# Altium schematic symbol library jlcpcb_resistors_basic.schlib: 256 symbols (part 3 of 5)
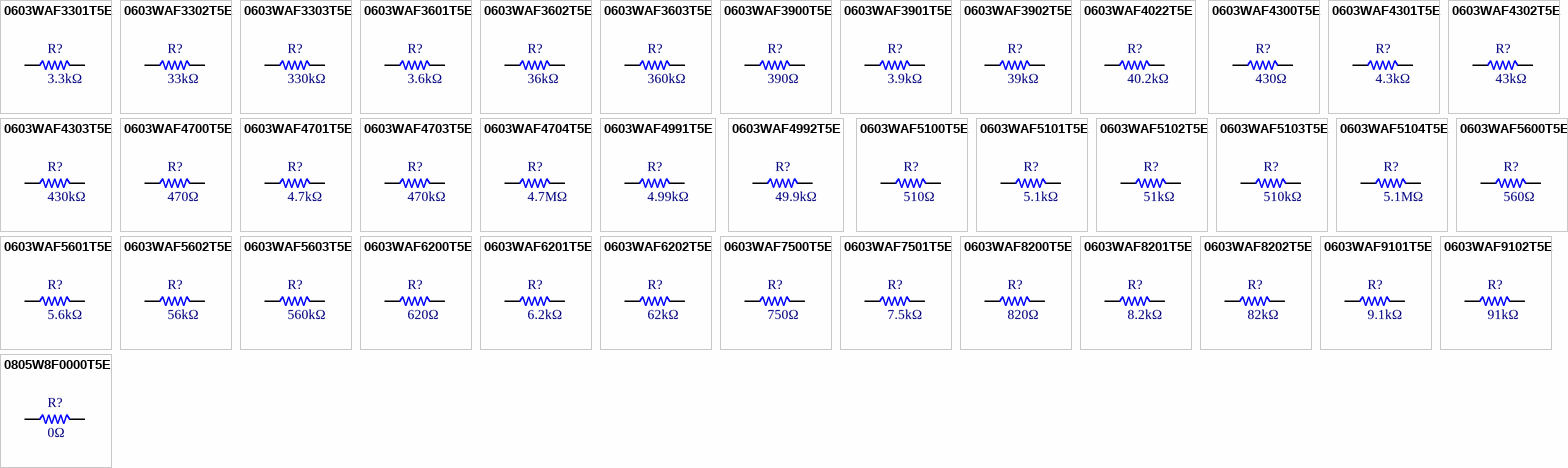
[diagram p8: symbols 0603WAF3301T5E to 0805W8F0000T5E]

## 0603WAF3303T5E
designator R?  Resistance: 330kΩ  (hidden comment: *)
Resistor, 330kΩ, ±1%, 100mW, 75V, ±100ppm/°C, -55°C to +155°C, SMD 0603; Manufacturer: Uniroyal; Manufacturer Part Number: 0603WAF3303T5E; Supplier 1: LCSC; Supplier Part Number 1: C23137; JLCPCB Part Number: C23137; Power Rating: 100mW; Category: Resistors; Package Size: 0603; JLCPCB Basic Part: Yes; Tolerance: ±1%; Voltage Rating: 75V; Temperature Coefficient: ±100ppm/°C; Temperature Rating: -55°C to +155°C; ComponentLink1Description: Datasheet; ComponentLink1URL: https://datasheet.lcsc.com/lcsc/2206010116_UNI-ROYAL-Uniroyal-Elec-0603WAF3303T5E_C23137.pdf; ComponentLink2Description: JLCPCB Part URL; ComponentLink2URL: https://jlcpcb.com/partdetail/23864-0603WAF3303T5E/C23137
footprint RES-0603 (0603 (1608M) Resistor)
pins: 1, 2

## 0603WAF3601T5E
designator R?  Resistance: 3.6kΩ  (hidden comment: *)
Resistor, 3.6kΩ, ±1%, 100mW, 75V, ±100ppm/°C, -55°C to +155°C, SMD 0603; Manufacturer: Uniroyal; Manufacturer Part Number: 0603WAF3601T5E; Supplier 1: LCSC; Supplier Part Number 1: C22980; JLCPCB Part Number: C22980; Power Rating: 100mW; Category: Resistors; Package Size: 0603; JLCPCB Basic Part: Yes; Tolerance: ±1%; Voltage Rating: 75V; Temperature Coefficient: ±100ppm/°C; Temperature Rating: -55°C to +155°C; ComponentLink1Description: Datasheet; ComponentLink1URL: https://datasheet.lcsc.com/lcsc/2206010116_UNI-ROYAL-Uniroyal-Elec-0603WAF3601T5E_C22980.pdf; ComponentLink2Description: JLCPCB Part URL; ComponentLink2URL: https://jlcpcb.com/partdetail/23707-0603WAF3601T5E/C22980
footprint RES-0603 (0603 (1608M) Resistor)
pins: 1, 2

## 0603WAF3602T5E
designator R?  Resistance: 36kΩ  (hidden comment: *)
Resistor, 36kΩ, ±1%, 100mW, 75V, ±100ppm/°C, -55°C to +155°C, SMD 0603; Manufacturer: Uniroyal; Manufacturer Part Number: 0603WAF3602T5E; Supplier 1: LCSC; Supplier Part Number 1: C23147; JLCPCB Part Number: C23147; Power Rating: 100mW; Category: Resistors; Package Size: 0603; JLCPCB Basic Part: Yes; Tolerance: ±1%; Voltage Rating: 75V; Temperature Coefficient: ±100ppm/°C; Temperature Rating: -55°C to +155°C; ComponentLink1Description: Datasheet; ComponentLink1URL: https://datasheet.lcsc.com/lcsc/2206010116_UNI-ROYAL-Uniroyal-Elec-0603WAF3602T5E_C23147.pdf; ComponentLink2Description: JLCPCB Part URL; ComponentLink2URL: https://jlcpcb.com/partdetail/23874-0603WAF3602T5E/C23147
footprint RES-0603 (0603 (1608M) Resistor)
pins: 1, 2

## 0603WAF3603T5E
designator R?  Resistance: 360kΩ  (hidden comment: *)
Resistor, 360kΩ, ±1%, 100mW, 75V, ±100ppm/°C, -55°C to +155°C, SMD 0603; Manufacturer: Uniroyal; Manufacturer Part Number: 0603WAF3603T5E; Supplier 1: LCSC; Supplier Part Number 1: C23146; JLCPCB Part Number: C23146; Power Rating: 100mW; Category: Resistors; Package Size: 0603; JLCPCB Basic Part: Yes; Tolerance: ±1%; Voltage Rating: 75V; Temperature Coefficient: ±100ppm/°C; Temperature Rating: -55°C to +155°C; ComponentLink1Description: Datasheet; ComponentLink1URL: https://datasheet.lcsc.com/lcsc/2206010116_UNI-ROYAL-Uniroyal-Elec-0603WAF3603T5E_C23146.pdf; ComponentLink2Description: JLCPCB Part URL; ComponentLink2URL: https://jlcpcb.com/partdetail/23873-0603WAF3603T5E/C23146
footprint RES-0603 (0603 (1608M) Resistor)
pins: 1, 2

## 0603WAF3900T5E
designator R?  Resistance: 390Ω  (hidden comment: *)
Resistor, 390Ω, ±1%, 100mW, 75V, ±100ppm/°C, -55°C to +155°C, SMD 0603; Manufacturer: Uniroyal; Manufacturer Part Number: 0603WAF3900T5E; Supplier 1: LCSC; Supplier Part Number 1: C23151; JLCPCB Part Number: C23151; Power Rating: 100mW; Category: Resistors; Package Size: 0603; JLCPCB Basic Part: Yes; Tolerance: ±1%; Voltage Rating: 75V; Temperature Coefficient: ±100ppm/°C; Temperature Rating: -55°C to +155°C; ComponentLink1Description: Datasheet; ComponentLink1URL: https://datasheet.lcsc.com/lcsc/2206010116_UNI-ROYAL-Uniroyal-Elec-0603WAF3900T5E_C23151.pdf; ComponentLink2Description: JLCPCB Part URL; ComponentLink2URL: https://jlcpcb.com/partdetail/23878-0603WAF3900T5E/C23151
footprint RES-0603 (0603 (1608M) Resistor)
pins: 1, 2

## 0603WAF3901T5E
designator R?  Resistance: 3.9kΩ  (hidden comment: *)
Resistor, 3.9kΩ, ±1%, 100mW, 75V, ±100ppm/°C, -55°C to +155°C, SMD 0603; Manufacturer: Uniroyal; Manufacturer Part Number: 0603WAF3901T5E; Supplier 1: LCSC; Supplier Part Number 1: C23018; JLCPCB Part Number: C23018; Power Rating: 100mW; Category: Resistors; Package Size: 0603; JLCPCB Basic Part: Yes; Tolerance: ±1%; Voltage Rating: 75V; Temperature Coefficient: ±100ppm/°C; Temperature Rating: -55°C to +155°C; ComponentLink1Description: Datasheet; ComponentLink1URL: https://datasheet.lcsc.com/lcsc/2206010116_UNI-ROYAL-Uniroyal-Elec-0603WAF3901T5E_C23018.pdf; ComponentLink2Description: JLCPCB Part URL; ComponentLink2URL: https://jlcpcb.com/partdetail/23745-0603WAF3901T5E/C23018
footprint RES-0603 (0603 (1608M) Resistor)
pins: 1, 2

## 0603WAF3902T5E
designator R?  Resistance: 39kΩ  (hidden comment: *)
Resistor, 39kΩ, ±1%, 100mW, 75V, ±100ppm/°C, -55°C to +155°C, SMD 0603; Manufacturer: Uniroyal; Manufacturer Part Number: 0603WAF3902T5E; Supplier 1: LCSC; Supplier Part Number 1: C23153; JLCPCB Part Number: C23153; Power Rating: 100mW; Category: Resistors; Package Size: 0603; JLCPCB Basic Part: Yes; Tolerance: ±1%; Voltage Rating: 75V; Temperature Coefficient: ±100ppm/°C; Temperature Rating: -55°C to +155°C; ComponentLink1Description: Datasheet; ComponentLink1URL: https://datasheet.lcsc.com/lcsc/2206010116_UNI-ROYAL-Uniroyal-Elec-0603WAF3902T5E_C23153.pdf; ComponentLink2Description: JLCPCB Part URL; ComponentLink2URL: https://jlcpcb.com/partdetail/23880-0603WAF3902T5E/C23153
footprint RES-0603 (0603 (1608M) Resistor)
pins: 1, 2

## 0603WAF4022T5E
designator R?  Resistance: 40.2kΩ  (hidden comment: *)
Resistor, 40.2kΩ, ±1%, 100mW, 75V, ±100ppm/°C, -55°C to +155°C, SMD 0603; Manufacturer: Uniroyal; Manufacturer Part Number: 0603WAF4022T5E; Supplier 1: LCSC; Supplier Part Number 1: C12447; JLCPCB Part Number: C12447; Power Rating: 100mW; Category: Resistors; Package Size: 0603; JLCPCB Basic Part: Yes; Tolerance: ±1%; Voltage Rating: 75V; Temperature Coefficient: ±100ppm/°C; Temperature Rating: -55°C to +155°C; ComponentLink1Description: Datasheet; ComponentLink1URL: https://datasheet.lcsc.com/lcsc/2206010216_UNI-ROYAL-Uniroyal-Elec-0603WAF4022T5E_C12447.pdf; ComponentLink2Description: JLCPCB Part URL; ComponentLink2URL: https://jlcpcb.com/partdetail/13081-0603WAF4022T5E/C12447
footprint RES-0603 (0603 (1608M) Resistor)
pins: 1, 2

## 0603WAF4300T5E
designator R?  Resistance: 430Ω  (hidden comment: *)
Resistor, 430Ω, ±1%, 100mW, 75V, ±100ppm/°C, -55°C to +155°C, SMD 0603; Manufacturer: Uniroyal; Manufacturer Part Number: 0603WAF4300T5E; Supplier 1: LCSC; Supplier Part Number 1: C23170; JLCPCB Part Number: C23170; Power Rating: 100mW; Category: Resistors; Package Size: 0603; JLCPCB Basic Part: Yes; Tolerance: ±1%; Voltage Rating: 75V; Temperature Coefficient: ±100ppm/°C; Temperature Rating: -55°C to +155°C; ComponentLink1Description: Datasheet; ComponentLink1URL: https://datasheet.lcsc.com/lcsc/2206010116_UNI-ROYAL-Uniroyal-Elec-0603WAF4300T5E_C23170.pdf; ComponentLink2Description: JLCPCB Part URL; ComponentLink2URL: https://jlcpcb.com/partdetail/23897-0603WAF4300T5E/C23170
footprint RES-0603 (0603 (1608M) Resistor)
pins: 1, 2

## 0603WAF4301T5E
designator R?  Resistance: 4.3kΩ  (hidden comment: *)
Resistor, 4.3kΩ, ±1%, 100mW, 75V, ±100ppm/°C, -55°C to +155°C, SMD 0603; Manufacturer: Uniroyal; Manufacturer Part Number: 0603WAF4301T5E; Supplier 1: LCSC; Supplier Part Number 1: C23159; JLCPCB Part Number: C23159; Power Rating: 100mW; Category: Resistors; Package Size: 0603; JLCPCB Basic Part: Yes; Tolerance: ±1%; Voltage Rating: 75V; Temperature Coefficient: ±100ppm/°C; Temperature Rating: -55°C to +155°C; ComponentLink1Description: Datasheet; ComponentLink1URL: https://datasheet.lcsc.com/lcsc/2206010116_UNI-ROYAL-Uniroyal-Elec-0603WAF4301T5E_C23159.pdf; ComponentLink2Description: JLCPCB Part URL; ComponentLink2URL: https://jlcpcb.com/partdetail/23886-0603WAF4301T5E/C23159
footprint RES-0603 (0603 (1608M) Resistor)
pins: 1, 2

## 0603WAF4302T5E
designator R?  Resistance: 43kΩ  (hidden comment: *)
Resistor, 43kΩ, ±1%, 100mW, 75V, ±100ppm/°C, -55°C to +155°C, SMD 0603; Manufacturer: Uniroyal; Manufacturer Part Number: 0603WAF4302T5E; Supplier 1: LCSC; Supplier Part Number 1: C23172; JLCPCB Part Number: C23172; Power Rating: 100mW; Category: Resistors; Package Size: 0603; JLCPCB Basic Part: Yes; Tolerance: ±1%; Voltage Rating: 75V; Temperature Coefficient: ±100ppm/°C; Temperature Rating: -55°C to +155°C; ComponentLink1Description: Datasheet; ComponentLink1URL: https://datasheet.lcsc.com/lcsc/2206010116_UNI-ROYAL-Uniroyal-Elec-0603WAF4302T5E_C23172.pdf; ComponentLink2Description: JLCPCB Part URL; ComponentLink2URL: https://jlcpcb.com/partdetail/23899-0603WAF4302T5E/C23172
footprint RES-0603 (0603 (1608M) Resistor)
pins: 1, 2

## 0603WAF4303T5E
designator R?  Resistance: 430kΩ  (hidden comment: *)
Resistor, 430kΩ, ±1%, 100mW, 75V, ±100ppm/°C, -55°C to +155°C, SMD 0603; Manufacturer: Uniroyal; Manufacturer Part Number: 0603WAF4303T5E; Supplier 1: LCSC; Supplier Part Number 1: C25969; JLCPCB Part Number: C25969; Power Rating: 100mW; Category: Resistors; Package Size: 0603; JLCPCB Basic Part: Yes; Tolerance: ±1%; Voltage Rating: 75V; Temperature Coefficient: ±100ppm/°C; Temperature Rating: -55°C to +155°C; ComponentLink1Description: Datasheet; ComponentLink1URL: https://datasheet.lcsc.com/lcsc/2206010045_UNI-ROYAL-Uniroyal-Elec-0603WAF4303T5E_C25969.pdf; ComponentLink2Description: JLCPCB Part URL; ComponentLink2URL: https://jlcpcb.com/partdetail/26712-0603WAF4303T5E/C25969
footprint RES-0603 (0603 (1608M) Resistor)
pins: 1, 2

## 0603WAF4700T5E
designator R?  Resistance: 470Ω  (hidden comment: *)
Resistor, 470Ω, ±1%, 100mW, 75V, ±100ppm/°C, -55°C to +155°C, SMD 0603; Manufacturer: Uniroyal; Manufacturer Part Number: 0603WAF4700T5E; Supplier 1: LCSC; Supplier Part Number 1: C23179; JLCPCB Part Number: C23179; Power Rating: 100mW; Category: Resistors; Package Size: 0603; JLCPCB Basic Part: Yes; Tolerance: ±1%; Voltage Rating: 75V; Temperature Coefficient: ±100ppm/°C; Temperature Rating: -55°C to +155°C; ComponentLink1Description: Datasheet; ComponentLink1URL: https://datasheet.lcsc.com/lcsc/2206010116_UNI-ROYAL-Uniroyal-Elec-0603WAF4700T5E_C23179.pdf; ComponentLink2Description: JLCPCB Part URL; ComponentLink2URL: https://jlcpcb.com/partdetail/23906-0603WAF4700T5E/C23179
footprint RES-0603 (0603 (1608M) Resistor)
pins: 1, 2

## 0603WAF4701T5E
designator R?  Resistance: 4.7kΩ  (hidden comment: *)
Resistor, 4.7kΩ, ±1%, 100mW, 75V, ±100ppm/°C, -55°C to +155°C, SMD 0603; Manufacturer: Uniroyal; Manufacturer Part Number: 0603WAF4701T5E; Supplier 1: LCSC; Supplier Part Number 1: C23162; JLCPCB Part Number: C23162; Power Rating: 100mW; Category: Resistors; Package Size: 0603; JLCPCB Basic Part: Yes; Tolerance: ±1%; Voltage Rating: 75V; Temperature Coefficient: ±100ppm/°C; Temperature Rating: -55°C to +155°C; ComponentLink1Description: Datasheet; ComponentLink1URL: https://datasheet.lcsc.com/lcsc/2206010116_UNI-ROYAL-Uniroyal-Elec-0603WAF4701T5E_C23162.pdf; ComponentLink2Description: JLCPCB Part URL; ComponentLink2URL: https://jlcpcb.com/partdetail/23889-0603WAF4701T5E/C23162
footprint RES-0603 (0603 (1608M) Resistor)
pins: 1, 2

## 0603WAF4703T5E
designator R?  Resistance: 470kΩ  (hidden comment: *)
Resistor, 470kΩ, ±1%, 100mW, 75V, ±100ppm/°C, -55°C to +155°C, SMD 0603; Manufacturer: Uniroyal; Manufacturer Part Number: 0603WAF4703T5E; Supplier 1: LCSC; Supplier Part Number 1: C23178; JLCPCB Part Number: C23178; Power Rating: 100mW; Category: Resistors; Package Size: 0603; JLCPCB Basic Part: Yes; Tolerance: ±1%; Voltage Rating: 75V; Temperature Coefficient: ±100ppm/°C; Temperature Rating: -55°C to +155°C; ComponentLink1Description: Datasheet; ComponentLink1URL: https://datasheet.lcsc.com/lcsc/2206010116_UNI-ROYAL-Uniroyal-Elec-0603WAF4703T5E_C23178.pdf; ComponentLink2Description: JLCPCB Part URL; ComponentLink2URL: https://jlcpcb.com/partdetail/23905-0603WAF4703T5E/C23178
footprint RES-0603 (0603 (1608M) Resistor)
pins: 1, 2

## 0603WAF4704T5E
designator R?  Resistance: 4.7MΩ  (hidden comment: *)
Resistor, 4.7MΩ, ±1%, 100mW, 75V, ±100ppm/°C, -55°C to +155°C, SMD 0603; Manufacturer: Uniroyal; Manufacturer Part Number: 0603WAF4704T5E; Supplier 1: LCSC; Supplier Part Number 1: C23163; JLCPCB Part Number: C23163; Power Rating: 100mW; Category: Resistors; Package Size: 0603; JLCPCB Basic Part: Yes; Tolerance: ±1%; Voltage Rating: 75V; Temperature Coefficient: ±100ppm/°C; Temperature Rating: -55°C to +155°C; ComponentLink1Description: Datasheet; ComponentLink1URL: https://datasheet.lcsc.com/lcsc/2206010116_UNI-ROYAL-Uniroyal-Elec-0603WAF4704T5E_C23163.pdf; ComponentLink2Description: JLCPCB Part URL; ComponentLink2URL: https://jlcpcb.com/partdetail/23890-0603WAF4704T5E/C23163
footprint RES-0603 (0603 (1608M) Resistor)
pins: 1, 2

## 0603WAF4991T5E
designator R?  Resistance: 4.99kΩ  (hidden comment: *)
Resistor, 4.99kΩ, ±1%, 100mW, 75V, ±100ppm/°C, -55°C to +155°C, SMD 0603; Manufacturer: Uniroyal; Manufacturer Part Number: 0603WAF4991T5E; Supplier 1: LCSC; Supplier Part Number 1: C23046; JLCPCB Part Number: C23046; Power Rating: 100mW; Category: Resistors; Package Size: 0603; JLCPCB Basic Part: Yes; Tolerance: ±1%; Voltage Rating: 75V; Temperature Coefficient: ±100ppm/°C; Temperature Rating: -55°C to +155°C; ComponentLink1Description: Datasheet; ComponentLink1URL: https://datasheet.lcsc.com/lcsc/2206010116_UNI-ROYAL-Uniroyal-Elec-0603WAF4991T5E_C23046.pdf; ComponentLink2Description: JLCPCB Part URL; ComponentLink2URL: https://jlcpcb.com/partdetail/23773-0603WAF4991T5E/C23046
footprint RES-0603 (0603 (1608M) Resistor)
pins: 1, 2

## 0603WAF4992T5E
designator R?  Resistance: 49.9kΩ  (hidden comment: *)
Resistor, 49.9kΩ, ±1%, 100mW, 75V, ±100ppm/°C, -55°C to +155°C, SMD 0603; Manufacturer: Uniroyal; Manufacturer Part Number: 0603WAF4992T5E; Supplier 1: LCSC; Supplier Part Number 1: C23184; JLCPCB Part Number: C23184; Power Rating: 100mW; Category: Resistors; Package Size: 0603; JLCPCB Basic Part: Yes; Tolerance: ±1%; Voltage Rating: 75V; Temperature Coefficient: ±100ppm/°C; Temperature Rating: -55°C to +155°C; ComponentLink1Description: Datasheet; ComponentLink1URL: https://datasheet.lcsc.com/lcsc/2206010116_UNI-ROYAL-Uniroyal-Elec-0603WAF4992T5E_C23184.pdf; ComponentLink2Description: JLCPCB Part URL; ComponentLink2URL: https://jlcpcb.com/partdetail/23911-0603WAF4992T5E/C23184
footprint RES-0603 (0603 (1608M) Resistor)
pins: 1, 2

## 0603WAF5100T5E
designator R?  Resistance: 510Ω  (hidden comment: *)
Resistor, 510Ω, ±1%, 100mW, 75V, ±100ppm/°C, -55°C to +155°C, SMD 0603; Manufacturer: Uniroyal; Manufacturer Part Number: 0603WAF5100T5E; Supplier 1: LCSC; Supplier Part Number 1: C23193; JLCPCB Part Number: C23193; Power Rating: 100mW; Category: Resistors; Package Size: 0603; JLCPCB Basic Part: Yes; Tolerance: ±1%; Voltage Rating: 75V; Temperature Coefficient: ±100ppm/°C; Temperature Rating: -55°C to +155°C; ComponentLink1Description: Datasheet; ComponentLink1URL: https://datasheet.lcsc.com/lcsc/2206010116_UNI-ROYAL-Uniroyal-Elec-0603WAF5100T5E_C23193.pdf; ComponentLink2Description: JLCPCB Part URL; ComponentLink2URL: https://jlcpcb.com/partdetail/23920-0603WAF5100T5E/C23193
footprint RES-0603 (0603 (1608M) Resistor)
pins: 1, 2

## 0603WAF5101T5E
designator R?  Resistance: 5.1kΩ  (hidden comment: *)
Resistor, 5.1kΩ, ±1%, 100mW, 75V, ±100ppm/°C, -55°C to +155°C, SMD 0603; Manufacturer: Uniroyal; Manufacturer Part Number: 0603WAF5101T5E; Supplier 1: LCSC; Supplier Part Number 1: C23186; JLCPCB Part Number: C23186; Power Rating: 100mW; Category: Resistors; Package Size: 0603; JLCPCB Basic Part: Yes; Tolerance: ±1%; Voltage Rating: 75V; Temperature Coefficient: ±100ppm/°C; Temperature Rating: -55°C to +155°C; ComponentLink1Description: Datasheet; ComponentLink1URL: https://datasheet.lcsc.com/lcsc/2206010116_UNI-ROYAL-Uniroyal-Elec-0603WAF5101T5E_C23186.pdf; ComponentLink2Description: JLCPCB Part URL; ComponentLink2URL: https://jlcpcb.com/partdetail/23913-0603WAF5101T5E/C23186
footprint RES-0603 (0603 (1608M) Resistor)
pins: 1, 2

## 0603WAF5102T5E
designator R?  Resistance: 51kΩ  (hidden comment: *)
Resistor, 51kΩ, ±1%, 100mW, 75V, ±100ppm/°C, -55°C to +155°C, SMD 0603; Manufacturer: Uniroyal; Manufacturer Part Number: 0603WAF5102T5E; Supplier 1: LCSC; Supplier Part Number 1: C23196; JLCPCB Part Number: C23196; Power Rating: 100mW; Category: Resistors; Package Size: 0603; JLCPCB Basic Part: Yes; Tolerance: ±1%; Voltage Rating: 75V; Temperature Coefficient: ±100ppm/°C; Temperature Rating: -55°C to +155°C; ComponentLink1Description: Datasheet; ComponentLink1URL: https://datasheet.lcsc.com/lcsc/2206010116_UNI-ROYAL-Uniroyal-Elec-0603WAF5102T5E_C23196.pdf; ComponentLink2Description: JLCPCB Part URL; ComponentLink2URL: https://jlcpcb.com/partdetail/23923-0603WAF5102T5E/C23196
footprint RES-0603 (0603 (1608M) Resistor)
pins: 1, 2

## 0603WAF5103T5E
designator R?  Resistance: 510kΩ  (hidden comment: *)
Resistor, 510kΩ, ±1%, 100mW, 75V, ±100ppm/°C, -55°C to +155°C, SMD 0603; Manufacturer: Uniroyal; Manufacturer Part Number: 0603WAF5103T5E; Supplier 1: LCSC; Supplier Part Number 1: C23192; JLCPCB Part Number: C23192; Power Rating: 100mW; Category: Resistors; Package Size: 0603; JLCPCB Basic Part: Yes; Tolerance: ±1%; Voltage Rating: 75V; Temperature Coefficient: ±100ppm/°C; Temperature Rating: -55°C to +155°C; ComponentLink1Description: Datasheet; ComponentLink1URL: https://datasheet.lcsc.com/lcsc/2206010116_UNI-ROYAL-Uniroyal-Elec-0603WAF5103T5E_C23192.pdf; ComponentLink2Description: JLCPCB Part URL; ComponentLink2URL: https://jlcpcb.com/partdetail/23919-0603WAF5103T5E/C23192
footprint RES-0603 (0603 (1608M) Resistor)
pins: 1, 2

## 0603WAF5104T5E
designator R?  Resistance: 5.1MΩ  (hidden comment: *)
Resistor, 5.1MΩ, ±1%, 100mW, 75V, ±100ppm/°C, -55°C to +155°C, SMD 0603; Manufacturer: Uniroyal; Manufacturer Part Number: 0603WAF5104T5E; Supplier 1: LCSC; Supplier Part Number 1: C13320; JLCPCB Part Number: C13320; Power Rating: 100mW; Category: Resistors; Package Size: 0603; JLCPCB Basic Part: Yes; Tolerance: ±1%; Voltage Rating: 75V; Temperature Coefficient: ±100ppm/°C; Temperature Rating: -55°C to +155°C; ComponentLink1Description: Datasheet; ComponentLink1URL: https://datasheet.lcsc.com/lcsc/2206010216_UNI-ROYAL-Uniroyal-Elec-0603WAF5104T5E_C13320.pdf; ComponentLink2Description: JLCPCB Part URL; ComponentLink2URL: https://jlcpcb.com/partdetail/13967-0603WAF5104T5E/C13320
footprint RES-0603 (0603 (1608M) Resistor)
pins: 1, 2

## 0603WAF5600T5E
designator R?  Resistance: 560Ω  (hidden comment: *)
Resistor, 560Ω, ±1%, 100mW, 75V, ±100ppm/°C, -55°C to +155°C, SMD 0603; Manufacturer: Uniroyal; Manufacturer Part Number: 0603WAF5600T5E; Supplier 1: LCSC; Supplier Part Number 1: C23204; JLCPCB Part Number: C23204; Power Rating: 100mW; Category: Resistors; Package Size: 0603; JLCPCB Basic Part: Yes; Tolerance: ±1%; Voltage Rating: 75V; Temperature Coefficient: ±100ppm/°C; Temperature Rating: -55°C to +155°C; ComponentLink1Description: Datasheet; ComponentLink1URL: https://datasheet.lcsc.com/lcsc/2206010116_UNI-ROYAL-Uniroyal-Elec-0603WAF5600T5E_C23204.pdf; ComponentLink2Description: JLCPCB Part URL; ComponentLink2URL: https://jlcpcb.com/partdetail/23931-0603WAF5600T5E/C23204
footprint RES-0603 (0603 (1608M) Resistor)
pins: 1, 2

## 0603WAF5601T5E
designator R?  Resistance: 5.6kΩ  (hidden comment: *)
Resistor, 5.6kΩ, ±1%, 100mW, 75V, ±100ppm/°C, -55°C to +155°C, SMD 0603; Manufacturer: Uniroyal; Manufacturer Part Number: 0603WAF5601T5E; Supplier 1: LCSC; Supplier Part Number 1: C23189; JLCPCB Part Number: C23189; Power Rating: 100mW; Category: Resistors; Package Size: 0603; JLCPCB Basic Part: Yes; Tolerance: ±1%; Voltage Rating: 75V; Temperature Coefficient: ±100ppm/°C; Temperature Rating: -55°C to +155°C; ComponentLink1Description: Datasheet; ComponentLink1URL: https://datasheet.lcsc.com/lcsc/2206010116_UNI-ROYAL-Uniroyal-Elec-0603WAF5601T5E_C23189.pdf; ComponentLink2Description: JLCPCB Part URL; ComponentLink2URL: https://jlcpcb.com/partdetail/23916-0603WAF5601T5E/C23189
footprint RES-0603 (0603 (1608M) Resistor)
pins: 1, 2

## 0603WAF5602T5E
designator R?  Resistance: 56kΩ  (hidden comment: *)
Resistor, 56kΩ, ±1%, 100mW, 75V, ±100ppm/°C, -55°C to +155°C, SMD 0603; Manufacturer: Uniroyal; Manufacturer Part Number: 0603WAF5602T5E; Supplier 1: LCSC; Supplier Part Number 1: C23206; JLCPCB Part Number: C23206; Power Rating: 100mW; Category: Resistors; Package Size: 0603; JLCPCB Basic Part: Yes; Tolerance: ±1%; Voltage Rating: 75V; Temperature Coefficient: ±100ppm/°C; Temperature Rating: -55°C to +155°C; ComponentLink1Description: Datasheet; ComponentLink1URL: https://datasheet.lcsc.com/lcsc/2206010116_UNI-ROYAL-Uniroyal-Elec-0603WAF5602T5E_C23206.pdf; ComponentLink2Description: JLCPCB Part URL; ComponentLink2URL: https://jlcpcb.com/partdetail/23933-0603WAF5602T5E/C23206
footprint RES-0603 (0603 (1608M) Resistor)
pins: 1, 2

## 0603WAF5603T5E
designator R?  Resistance: 560kΩ  (hidden comment: *)
Resistor, 560kΩ, ±1%, 100mW, 75V, ±100ppm/°C, -55°C to +155°C, SMD 0603; Manufacturer: Uniroyal; Manufacturer Part Number: 0603WAF5603T5E; Supplier 1: LCSC; Supplier Part Number 1: C23203; JLCPCB Part Number: C23203; Power Rating: 100mW; Category: Resistors; Package Size: 0603; JLCPCB Basic Part: Yes; Tolerance: ±1%; Voltage Rating: 75V; Temperature Coefficient: ±100ppm/°C; Temperature Rating: -55°C to +155°C; ComponentLink1Description: Datasheet; ComponentLink1URL: https://datasheet.lcsc.com/lcsc/2206010116_UNI-ROYAL-Uniroyal-Elec-0603WAF5603T5E_C23203.pdf; ComponentLink2Description: JLCPCB Part URL; ComponentLink2URL: https://jlcpcb.com/partdetail/23930-0603WAF5603T5E/C23203
footprint RES-0603 (0603 (1608M) Resistor)
pins: 1, 2

## 0603WAF6200T5E
designator R?  Resistance: 620Ω  (hidden comment: *)
Resistor, 620Ω, ±1%, 100mW, 75V, ±100ppm/°C, -55°C to +155°C, SMD 0603; Manufacturer: Uniroyal; Manufacturer Part Number: 0603WAF6200T5E; Supplier 1: LCSC; Supplier Part Number 1: C23220; JLCPCB Part Number: C23220; Power Rating: 100mW; Category: Resistors; Package Size: 0603; JLCPCB Basic Part: Yes; Tolerance: ±1%; Voltage Rating: 75V; Temperature Coefficient: ±100ppm/°C; Temperature Rating: -55°C to +155°C; ComponentLink1Description: Datasheet; ComponentLink1URL: https://datasheet.lcsc.com/lcsc/2206010116_UNI-ROYAL-Uniroyal-Elec-0603WAF6200T5E_C23220.pdf; ComponentLink2Description: JLCPCB Part URL; ComponentLink2URL: https://jlcpcb.com/partdetail/23947-0603WAF6200T5E/C23220
footprint RES-0603 (0603 (1608M) Resistor)
pins: 1, 2

## 0603WAF6201T5E
designator R?  Resistance: 6.2kΩ  (hidden comment: *)
Resistor, 6.2kΩ, ±1%, 100mW, 75V, ±100ppm/°C, -55°C to +155°C, SMD 0603; Manufacturer: Uniroyal; Manufacturer Part Number: 0603WAF6201T5E; Supplier 1: LCSC; Supplier Part Number 1: C4260; JLCPCB Part Number: C4260; Power Rating: 100mW; Category: Resistors; Package Size: 0603; JLCPCB Basic Part: Yes; Tolerance: ±1%; Voltage Rating: 75V; Temperature Coefficient: ±100ppm/°C; Temperature Rating: -55°C to +155°C; ComponentLink1Description: Datasheet; ComponentLink1URL: https://datasheet.lcsc.com/lcsc/2206010230_UNI-ROYAL-Uniroyal-Elec-0603WAF6201T5E_C4260.pdf; ComponentLink2Description: JLCPCB Part URL; ComponentLink2URL: https://jlcpcb.com/partdetail/4667-0603WAF6201T5E/C4260
footprint RES-0603 (0603 (1608M) Resistor)
pins: 1, 2

## 0603WAF6202T5E
designator R?  Resistance: 62kΩ  (hidden comment: *)
Resistor, 62kΩ, ±1%, 100mW, 75V, ±100ppm/°C, -55°C to +155°C, SMD 0603; Manufacturer: Uniroyal; Manufacturer Part Number: 0603WAF6202T5E; Supplier 1: LCSC; Supplier Part Number 1: C23221; JLCPCB Part Number: C23221; Power Rating: 100mW; Category: Resistors; Package Size: 0603; JLCPCB Basic Part: Yes; Tolerance: ±1%; Voltage Rating: 75V; Temperature Coefficient: ±100ppm/°C; Temperature Rating: -55°C to +155°C; ComponentLink1Description: Datasheet; ComponentLink1URL: https://datasheet.lcsc.com/lcsc/2206010116_UNI-ROYAL-Uniroyal-Elec-0603WAF6202T5E_C23221.pdf; ComponentLink2Description: JLCPCB Part URL; ComponentLink2URL: https://jlcpcb.com/partdetail/23948-0603WAF6202T5E/C23221
footprint RES-0603 (0603 (1608M) Resistor)
pins: 1, 2

## 0603WAF7500T5E
designator R?  Resistance: 750Ω  (hidden comment: *)
Resistor, 750Ω, ±1%, 100mW, 75V, ±100ppm/°C, -55°C to +155°C, SMD 0603; Manufacturer: Uniroyal; Manufacturer Part Number: 0603WAF7500T5E; Supplier 1: LCSC; Supplier Part Number 1: C23241; JLCPCB Part Number: C23241; Power Rating: 100mW; Category: Resistors; Package Size: 0603; JLCPCB Basic Part: Yes; Tolerance: ±1%; Voltage Rating: 75V; Temperature Coefficient: ±100ppm/°C; Temperature Rating: -55°C to +155°C; ComponentLink1Description: Datasheet; ComponentLink1URL: https://datasheet.lcsc.com/lcsc/2206010100_UNI-ROYAL-Uniroyal-Elec-0603WAF7500T5E_C23241.pdf; ComponentLink2Description: JLCPCB Part URL; ComponentLink2URL: https://jlcpcb.com/partdetail/23968-0603WAF7500T5E/C23241
footprint RES-0603 (0603 (1608M) Resistor)
pins: 1, 2

## 0603WAF7501T5E
designator R?  Resistance: 7.5kΩ  (hidden comment: *)
Resistor, 7.5kΩ, ±1%, 100mW, 75V, ±100ppm/°C, -55°C to +155°C, SMD 0603; Manufacturer: Uniroyal; Manufacturer Part Number: 0603WAF7501T5E; Supplier 1: LCSC; Supplier Part Number 1: C23234; JLCPCB Part Number: C23234; Power Rating: 100mW; Category: Resistors; Package Size: 0603; JLCPCB Basic Part: Yes; Tolerance: ±1%; Voltage Rating: 75V; Temperature Coefficient: ±100ppm/°C; Temperature Rating: -55°C to +155°C; ComponentLink1Description: Datasheet; ComponentLink1URL: https://datasheet.lcsc.com/lcsc/2206010100_UNI-ROYAL-Uniroyal-Elec-0603WAF7501T5E_C23234.pdf; ComponentLink2Description: JLCPCB Part URL; ComponentLink2URL: https://jlcpcb.com/partdetail/23961-0603WAF7501T5E/C23234
footprint RES-0603 (0603 (1608M) Resistor)
pins: 1, 2

## 0603WAF8200T5E
designator R?  Resistance: 820Ω  (hidden comment: *)
Resistor, 820Ω, ±1%, 100mW, 75V, ±100ppm/°C, -55°C to +155°C, SMD 0603; Manufacturer: Uniroyal; Manufacturer Part Number: 0603WAF8200T5E; Supplier 1: LCSC; Supplier Part Number 1: C23253; JLCPCB Part Number: C23253; Power Rating: 100mW; Category: Resistors; Package Size: 0603; JLCPCB Basic Part: Yes; Tolerance: ±1%; Voltage Rating: 75V; Temperature Coefficient: ±100ppm/°C; Temperature Rating: -55°C to +155°C; ComponentLink1Description: Datasheet; ComponentLink1URL: https://datasheet.lcsc.com/lcsc/2206010100_UNI-ROYAL-Uniroyal-Elec-0603WAF8200T5E_C23253.pdf; ComponentLink2Description: JLCPCB Part URL; ComponentLink2URL: https://jlcpcb.com/partdetail/23980-0603WAF8200T5E/C23253
footprint RES-0603 (0603 (1608M) Resistor)
pins: 1, 2

## 0603WAF8201T5E
designator R?  Resistance: 8.2kΩ  (hidden comment: *)
Resistor, 8.2kΩ, ±1%, 100mW, 75V, ±100ppm/°C, -55°C to +155°C, SMD 0603; Manufacturer: Uniroyal; Manufacturer Part Number: 0603WAF8201T5E; Supplier 1: LCSC; Supplier Part Number 1: C25981; JLCPCB Part Number: C25981; Power Rating: 100mW; Category: Resistors; Package Size: 0603; JLCPCB Basic Part: Yes; Tolerance: ±1%; Voltage Rating: 75V; Temperature Coefficient: ±100ppm/°C; Temperature Rating: -55°C to +155°C; ComponentLink1Description: Datasheet; ComponentLink1URL: https://datasheet.lcsc.com/lcsc/2206010045_UNI-ROYAL-Uniroyal-Elec-0603WAF8201T5E_C25981.pdf; ComponentLink2Description: JLCPCB Part URL; ComponentLink2URL: https://jlcpcb.com/partdetail/26724-0603WAF8201T5E/C25981
footprint RES-0603 (0603 (1608M) Resistor)
pins: 1, 2

## 0603WAF8202T5E
designator R?  Resistance: 82kΩ  (hidden comment: *)
Resistor, 82kΩ, ±1%, 100mW, 75V, ±100ppm/°C, -55°C to +155°C, SMD 0603; Manufacturer: Uniroyal; Manufacturer Part Number: 0603WAF8202T5E; Supplier 1: LCSC; Supplier Part Number 1: C23254; JLCPCB Part Number: C23254; Power Rating: 100mW; Category: Resistors; Package Size: 0603; JLCPCB Basic Part: Yes; Tolerance: ±1%; Voltage Rating: 75V; Temperature Coefficient: ±100ppm/°C; Temperature Rating: -55°C to +155°C; ComponentLink1Description: Datasheet; ComponentLink1URL: https://datasheet.lcsc.com/lcsc/2206010100_UNI-ROYAL-Uniroyal-Elec-0603WAF8202T5E_C23254.pdf; ComponentLink2Description: JLCPCB Part URL; ComponentLink2URL: https://jlcpcb.com/partdetail/23981-0603WAF8202T5E/C23254
footprint RES-0603 (0603 (1608M) Resistor)
pins: 1, 2

## 0603WAF9101T5E
designator R?  Resistance: 9.1kΩ  (hidden comment: *)
Resistor, 9.1kΩ, ±1%, 100mW, 75V, ±100ppm/°C, -55°C to +155°C, SMD 0603; Manufacturer: Uniroyal; Manufacturer Part Number: 0603WAF9101T5E; Supplier 1: LCSC; Supplier Part Number 1: C23260; JLCPCB Part Number: C23260; Power Rating: 100mW; Category: Resistors; Package Size: 0603; JLCPCB Basic Part: Yes; Tolerance: ±1%; Voltage Rating: 75V; Temperature Coefficient: ±100ppm/°C; Temperature Rating: -55°C to +155°C; ComponentLink1Description: Datasheet; ComponentLink1URL: https://datasheet.lcsc.com/lcsc/2206010100_UNI-ROYAL-Uniroyal-Elec-0603WAF9101T5E_C23260.pdf; ComponentLink2Description: JLCPCB Part URL; ComponentLink2URL: https://jlcpcb.com/partdetail/23987-0603WAF9101T5E/C23260
footprint RES-0603 (0603 (1608M) Resistor)
pins: 1, 2

## 0603WAF9102T5E
designator R?  Resistance: 91kΩ  (hidden comment: *)
Resistor, 91kΩ, ±1%, 100mW, 75V, ±100ppm/°C, -55°C to +155°C, SMD 0603; Manufacturer: Uniroyal; Manufacturer Part Number: 0603WAF9102T5E; Supplier 1: LCSC; Supplier Part Number 1: C23265; JLCPCB Part Number: C23265; Power Rating: 100mW; Category: Resistors; Package Size: 0603; JLCPCB Basic Part: Yes; Tolerance: ±1%; Voltage Rating: 75V; Temperature Coefficient: ±100ppm/°C; Temperature Rating: -55°C to +155°C; ComponentLink1Description: Datasheet; ComponentLink1URL: https://datasheet.lcsc.com/lcsc/2206010100_UNI-ROYAL-Uniroyal-Elec-0603WAF9102T5E_C23265.pdf; ComponentLink2Description: JLCPCB Part URL; ComponentLink2URL: https://jlcpcb.com/partdetail/23992-0603WAF9102T5E/C23265
footprint RES-0603 (0603 (1608M) Resistor)
pins: 1, 2

## 0805W8F0000T5E
designator R?  Resistance: 0Ω  (hidden comment: *)
Resistor, 0Ω, ±1%, 125mW, 150V, ±800ppm/°C, -55°C to +155°C, SMD 0805; Manufacturer: Uniroyal; Manufacturer Part Number: 0805W8F0000T5E; Supplier 1: LCSC; Supplier Part Number 1: C17477; JLCPCB Part Number: C17477; Power Rating: 125mW; Category: Resistors; Package Size: 0805; JLCPCB Basic Part: Yes; Tolerance: ±1%; Voltage Rating: 150V; Temperature Coefficient: ±800ppm/°C; Temperature Rating: -55°C to +155°C; ComponentLink1Description: Datasheet; ComponentLink1URL: https://datasheet.lcsc.com/lcsc/2206010216_UNI-ROYAL-Uniroyal-Elec-0805W8F0000T5E_C17477.pdf; ComponentLink2Description: JLCPCB Part URL; ComponentLink2URL: https://jlcpcb.com/partdetail/18165-0805W8F0000T5E/C17477
footprint RES-0805 (0805 (2012M) Resistor)
pins: 1, 2

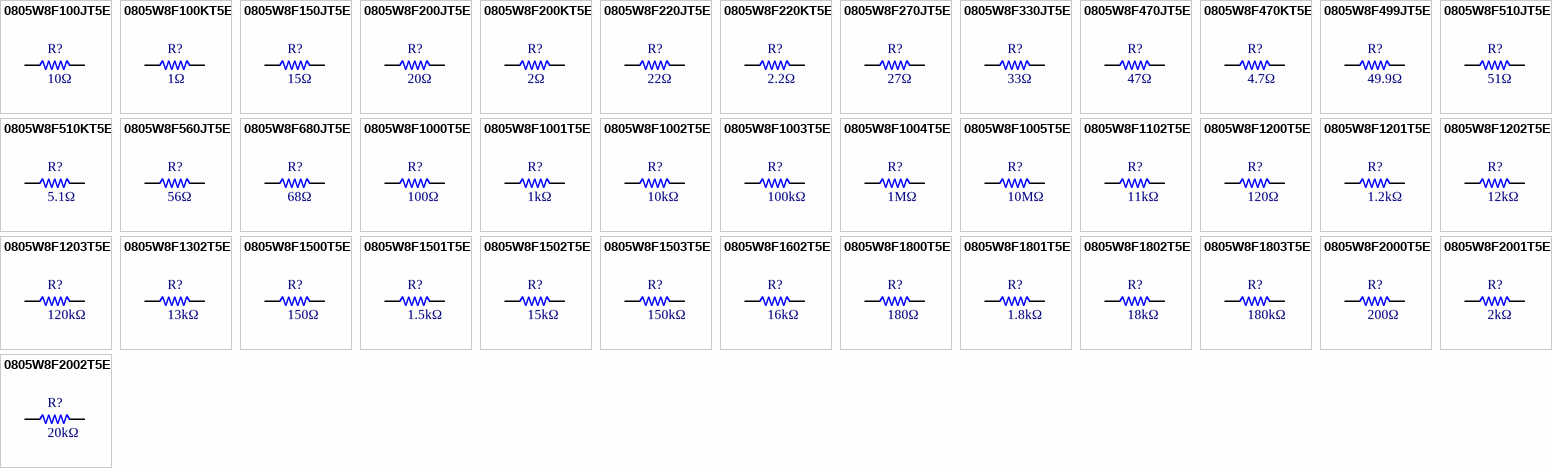
[diagram p4: symbols 0805W8F100JT5E to 0805W8F2002T5E]

## 0805W8F100JT5E
designator R?  Resistance: 10Ω  (hidden comment: *)
Resistor, 10Ω, ±1%, 125mW, 150V, ±200ppm/°C, -55°C to +155°C, SMD 0805; Manufacturer: Uniroyal; Manufacturer Part Number: 0805W8F100JT5E; Supplier 1: LCSC; Supplier Part Number 1: C17415; JLCPCB Part Number: C17415; Power Rating: 125mW; Category: Resistors; Package Size: 0805; JLCPCB Basic Part: Yes; Tolerance: ±1%; Voltage Rating: 150V; Temperature Coefficient: ±200ppm/°C; Temperature Rating: -55°C to +155°C; ComponentLink1Description: Datasheet; ComponentLink1URL: https://datasheet.lcsc.com/lcsc/2206010216_UNI-ROYAL-Uniroyal-Elec-0805W8F100JT5E_C17415.pdf; ComponentLink2Description: JLCPCB Part URL; ComponentLink2URL: https://jlcpcb.com/partdetail/18103-0805W8F100JT5E/C17415
footprint RES-0805 (0805 (2012M) Resistor)
pins: 1, 2

## 0805W8F100KT5E
designator R?  Resistance: 1Ω  (hidden comment: *)
Resistor, 1Ω, ±1%, 125mW, 150V, ±400ppm/°C, -55°C to +155°C, SMD 0805; Manufacturer: Uniroyal; Manufacturer Part Number: 0805W8F100KT5E; Supplier 1: LCSC; Supplier Part Number 1: C25271; JLCPCB Part Number: C25271; Power Rating: 125mW; Category: Resistors; Package Size: 0805; JLCPCB Basic Part: Yes; Tolerance: ±1%; Voltage Rating: 150V; Temperature Coefficient: ±400ppm/°C; Temperature Rating: -55°C to +155°C; ComponentLink1Description: Datasheet; ComponentLink1URL: https://datasheet.lcsc.com/lcsc/2205311845_UNI-ROYAL-Uniroyal-Elec-0805W8F100KT5E_C25271.pdf; ComponentLink2Description: JLCPCB Part URL; ComponentLink2URL: https://jlcpcb.com/partdetail/26014-0805W8F100KT5E/C25271
footprint RES-0805 (0805 (2012M) Resistor)
pins: 1, 2

## 0805W8F150JT5E
designator R?  Resistance: 15Ω  (hidden comment: *)
Resistor, 15Ω, ±1%, 125mW, 150V, ±100ppm/°C, -55°C to +155°C, SMD 0805; Manufacturer: Uniroyal; Manufacturer Part Number: 0805W8F150JT5E; Supplier 1: LCSC; Supplier Part Number 1: C17480; JLCPCB Part Number: C17480; Power Rating: 125mW; Category: Resistors; Package Size: 0805; JLCPCB Basic Part: Yes; Tolerance: ±1%; Voltage Rating: 150V; Temperature Coefficient: ±100ppm/°C; Temperature Rating: -55°C to +155°C; ComponentLink1Description: Datasheet; ComponentLink1URL: https://datasheet.lcsc.com/lcsc/2206010216_UNI-ROYAL-Uniroyal-Elec-0805W8F150JT5E_C17480.pdf; ComponentLink2Description: JLCPCB Part URL; ComponentLink2URL: https://jlcpcb.com/partdetail/18168-0805W8F150JT5E/C17480
footprint RES-0805 (0805 (2012M) Resistor)
pins: 1, 2

## 0805W8F200JT5E
designator R?  Resistance: 20Ω  (hidden comment: *)
Resistor, 20Ω, ±1%, 125mW, 150V, ±200ppm/°C, -55°C to +155°C, SMD 0805; Manufacturer: Uniroyal; Manufacturer Part Number: 0805W8F200JT5E; Supplier 1: LCSC; Supplier Part Number 1: C17544; JLCPCB Part Number: C17544; Power Rating: 125mW; Category: Resistors; Package Size: 0805; JLCPCB Basic Part: Yes; Tolerance: ±1%; Voltage Rating: 150V; Temperature Coefficient: ±200ppm/°C; Temperature Rating: -55°C to +155°C; ComponentLink1Description: Datasheet; ComponentLink1URL: https://datasheet.lcsc.com/lcsc/2206010200_UNI-ROYAL-Uniroyal-Elec-0805W8F200JT5E_C17544.pdf; ComponentLink2Description: JLCPCB Part URL; ComponentLink2URL: https://jlcpcb.com/partdetail/18232-0805W8F200JT5E/C17544
footprint RES-0805 (0805 (2012M) Resistor)
pins: 1, 2

## 0805W8F200KT5E
designator R?  Resistance: 2Ω  (hidden comment: *)
Resistor, 2Ω, ±1%, 125mW, 150V, ±400ppm/°C, -55°C to +155°C, SMD 0805; Manufacturer: Uniroyal; Manufacturer Part Number: 0805W8F200KT5E; Supplier 1: LCSC; Supplier Part Number 1: C17606; JLCPCB Part Number: C17606; Power Rating: 125mW; Category: Resistors; Package Size: 0805; JLCPCB Basic Part: Yes; Tolerance: ±1%; Voltage Rating: 150V; Temperature Coefficient: ±400ppm/°C; Temperature Rating: -55°C to +155°C; ComponentLink1Description: Datasheet; ComponentLink1URL: https://datasheet.lcsc.com/lcsc/2206010200_UNI-ROYAL-Uniroyal-Elec-0805W8F200KT5E_C17606.pdf; ComponentLink2Description: JLCPCB Part URL; ComponentLink2URL: https://jlcpcb.com/partdetail/18294-0805W8F200KT5E/C17606
footprint RES-0805 (0805 (2012M) Resistor)
pins: 1, 2

## 0805W8F220JT5E
designator R?  Resistance: 22Ω  (hidden comment: *)
Resistor, 22Ω, ±1%, 125mW, 150V, ±100ppm/°C, -55°C to +155°C, SMD 0805; Manufacturer: Uniroyal; Manufacturer Part Number: 0805W8F220JT5E; Supplier 1: LCSC; Supplier Part Number 1: C17561; JLCPCB Part Number: C17561; Power Rating: 125mW; Category: Resistors; Package Size: 0805; JLCPCB Basic Part: Yes; Tolerance: ±1%; Voltage Rating: 150V; Temperature Coefficient: ±100ppm/°C; Temperature Rating: -55°C to +155°C; ComponentLink1Description: Datasheet; ComponentLink1URL: https://datasheet.lcsc.com/lcsc/2206010200_UNI-ROYAL-Uniroyal-Elec-0805W8F220JT5E_C17561.pdf; ComponentLink2Description: JLCPCB Part URL; ComponentLink2URL: https://jlcpcb.com/partdetail/18249-0805W8F220JT5E/C17561
footprint RES-0805 (0805 (2012M) Resistor)
pins: 1, 2

## 0805W8F220KT5E
designator R?  Resistance: 2.2Ω  (hidden comment: *)
Resistor, 2.2Ω, ±1%, 125mW, 150V, ±400ppm/°C, -55°C to +155°C, SMD 0805; Manufacturer: Uniroyal; Manufacturer Part Number: 0805W8F220KT5E; Supplier 1: LCSC; Supplier Part Number 1: C17521; JLCPCB Part Number: C17521; Power Rating: 125mW; Category: Resistors; Package Size: 0805; JLCPCB Basic Part: Yes; Tolerance: ±1%; Voltage Rating: 150V; Temperature Coefficient: ±400ppm/°C; Temperature Rating: -55°C to +155°C; ComponentLink1Description: Datasheet; ComponentLink1URL: https://datasheet.lcsc.com/lcsc/2206010200_UNI-ROYAL-Uniroyal-Elec-0805W8F220KT5E_C17521.pdf; ComponentLink2Description: JLCPCB Part URL; ComponentLink2URL: https://jlcpcb.com/partdetail/18209-0805W8F220KT5E/C17521
footprint RES-0805 (0805 (2012M) Resistor)
pins: 1, 2

## 0805W8F270JT5E
designator R?  Resistance: 27Ω  (hidden comment: *)
Resistor, 27Ω, ±1%, 125mW, 150V, ±100ppm/°C, -55°C to +155°C, SMD 0805; Manufacturer: Uniroyal; Manufacturer Part Number: 0805W8F270JT5E; Supplier 1: LCSC; Supplier Part Number 1: C17594; JLCPCB Part Number: C17594; Power Rating: 125mW; Category: Resistors; Package Size: 0805; JLCPCB Basic Part: Yes; Tolerance: ±1%; Voltage Rating: 150V; Temperature Coefficient: ±100ppm/°C; Temperature Rating: -55°C to +155°C; ComponentLink1Description: Datasheet; ComponentLink1URL: https://datasheet.lcsc.com/lcsc/2206010200_UNI-ROYAL-Uniroyal-Elec-0805W8F270JT5E_C17594.pdf; ComponentLink2Description: JLCPCB Part URL; ComponentLink2URL: https://jlcpcb.com/partdetail/18282-0805W8F270JT5E/C17594
footprint RES-0805 (0805 (2012M) Resistor)
pins: 1, 2

## 0805W8F330JT5E
designator R?  Resistance: 33Ω  (hidden comment: *)
Resistor, 33Ω, ±1%, 125mW, 150V, ±200ppm/°C, -55°C to +155°C, SMD 0805; Manufacturer: Uniroyal; Manufacturer Part Number: 0805W8F330JT5E; Supplier 1: LCSC; Supplier Part Number 1: C17634; JLCPCB Part Number: C17634; Power Rating: 125mW; Category: Resistors; Package Size: 0805; JLCPCB Basic Part: Yes; Tolerance: ±1%; Voltage Rating: 150V; Temperature Coefficient: ±200ppm/°C; Temperature Rating: -55°C to +155°C; ComponentLink1Description: Datasheet; ComponentLink1URL: https://datasheet.lcsc.com/lcsc/2205311830_UNI-ROYAL-Uniroyal-Elec-0805W8F330JT5E_C17634.pdf; ComponentLink2Description: JLCPCB Part URL; ComponentLink2URL: https://jlcpcb.com/partdetail/18322-0805W8F330JT5E/C17634
footprint RES-0805 (0805 (2012M) Resistor)
pins: 1, 2

## 0805W8F470JT5E
designator R?  Resistance: 47Ω  (hidden comment: *)
Resistor, 47Ω, ±1%, 125mW, 150V, ±200ppm/°C, -55°C to +155°C, SMD 0805; Manufacturer: Uniroyal; Manufacturer Part Number: 0805W8F470JT5E; Supplier 1: LCSC; Supplier Part Number 1: C17714; JLCPCB Part Number: C17714; Power Rating: 125mW; Category: Resistors; Package Size: 0805; JLCPCB Basic Part: Yes; Tolerance: ±1%; Voltage Rating: 150V; Temperature Coefficient: ±200ppm/°C; Temperature Rating: -55°C to +155°C; ComponentLink1Description: Datasheet; ComponentLink1URL: https://datasheet.lcsc.com/lcsc/2206010200_UNI-ROYAL-Uniroyal-Elec-0805W8F470JT5E_C17714.pdf; ComponentLink2Description: JLCPCB Part URL; ComponentLink2URL: https://jlcpcb.com/partdetail/18402-0805W8F470JT5E/C17714
footprint RES-0805 (0805 (2012M) Resistor)
pins: 1, 2

## 0805W8F470KT5E
designator R?  Resistance: 4.7Ω  (hidden comment: *)
Resistor, 4.7Ω, ±1%, 125mW, 150V, ±200ppm/°C, -55°C to +155°C, SMD 0805; Manufacturer: Uniroyal; Manufacturer Part Number: 0805W8F470KT5E; Supplier 1: LCSC; Supplier Part Number 1: C17675; JLCPCB Part Number: C17675; Power Rating: 125mW; Category: Resistors; Package Size: 0805; JLCPCB Basic Part: Yes; Tolerance: ±1%; Voltage Rating: 150V; Temperature Coefficient: ±200ppm/°C; Temperature Rating: -55°C to +155°C; ComponentLink1Description: Datasheet; ComponentLink1URL: https://datasheet.lcsc.com/lcsc/2206010200_UNI-ROYAL-Uniroyal-Elec-0805W8F470KT5E_C17675.pdf; ComponentLink2Description: JLCPCB Part URL; ComponentLink2URL: https://jlcpcb.com/partdetail/18363-0805W8F470KT5E/C17675
footprint RES-0805 (0805 (2012M) Resistor)
pins: 1, 2

## 0805W8F499JT5E
designator R?  Resistance: 49.9Ω  (hidden comment: *)
Resistor, 49.9Ω, ±1%, 125mW, 150V, ±100ppm/°C, -55°C to +155°C, SMD 0805; Manufacturer: Uniroyal; Manufacturer Part Number: 0805W8F499JT5E; Supplier 1: LCSC; Supplier Part Number 1: C17720; JLCPCB Part Number: C17720; Power Rating: 125mW; Category: Resistors; Package Size: 0805; JLCPCB Basic Part: Yes; Tolerance: ±1%; Voltage Rating: 150V; Temperature Coefficient: ±100ppm/°C; Temperature Rating: -55°C to +155°C; ComponentLink1Description: Datasheet; ComponentLink1URL: https://datasheet.lcsc.com/lcsc/2206010200_UNI-ROYAL-Uniroyal-Elec-0805W8F499JT5E_C17720.pdf; ComponentLink2Description: JLCPCB Part URL; ComponentLink2URL: https://jlcpcb.com/partdetail/18408-0805W8F499JT5E/C17720
footprint RES-0805 (0805 (2012M) Resistor)
pins: 1, 2

## 0805W8F510JT5E
designator R?  Resistance: 51Ω  (hidden comment: *)
Resistor, 51Ω, ±1%, 125mW, 150V, ±100ppm/°C, -55°C to +155°C, SMD 0805; Manufacturer: Uniroyal; Manufacturer Part Number: 0805W8F510JT5E; Supplier 1: LCSC; Supplier Part Number 1: C17738; JLCPCB Part Number: C17738; Power Rating: 125mW; Category: Resistors; Package Size: 0805; JLCPCB Basic Part: Yes; Tolerance: ±1%; Voltage Rating: 150V; Temperature Coefficient: ±100ppm/°C; Temperature Rating: -55°C to +155°C; ComponentLink1Description: Datasheet; ComponentLink1URL: https://datasheet.lcsc.com/lcsc/2206010200_UNI-ROYAL-Uniroyal-Elec-0805W8F510JT5E_C17738.pdf; ComponentLink2Description: JLCPCB Part URL; ComponentLink2URL: https://jlcpcb.com/partdetail/18426-0805W8F510JT5E/C17738
footprint RES-0805 (0805 (2012M) Resistor)
pins: 1, 2

## 0805W8F510KT5E
designator R?  Resistance: 5.1Ω  (hidden comment: *)
Resistor, 5.1Ω, ±1%, 125mW, 150V, ±400ppm/°C, -55°C to +155°C, SMD 0805; Manufacturer: Uniroyal; Manufacturer Part Number: 0805W8F510KT5E; Supplier 1: LCSC; Supplier Part Number 1: C17724; JLCPCB Part Number: C17724; Power Rating: 125mW; Category: Resistors; Package Size: 0805; JLCPCB Basic Part: Yes; Tolerance: ±1%; Voltage Rating: 150V; Temperature Coefficient: ±400ppm/°C; Temperature Rating: -55°C to +155°C; ComponentLink1Description: Datasheet; ComponentLink1URL: https://datasheet.lcsc.com/lcsc/2206010200_UNI-ROYAL-Uniroyal-Elec-0805W8F510KT5E_C17724.pdf; ComponentLink2Description: JLCPCB Part URL; ComponentLink2URL: https://jlcpcb.com/partdetail/18412-0805W8F510KT5E/C17724
footprint RES-0805 (0805 (2012M) Resistor)
pins: 1, 2

## 0805W8F560JT5E
designator R?  Resistance: 56Ω  (hidden comment: *)
Resistor, 56Ω, ±1%, 125mW, 150V, ±100ppm/°C, -55°C to +155°C, SMD 0805; Manufacturer: Uniroyal; Manufacturer Part Number: 0805W8F560JT5E; Supplier 1: LCSC; Supplier Part Number 1: C17757; JLCPCB Part Number: C17757; Power Rating: 125mW; Category: Resistors; Package Size: 0805; JLCPCB Basic Part: Yes; Tolerance: ±1%; Voltage Rating: 150V; Temperature Coefficient: ±100ppm/°C; Temperature Rating: -55°C to +155°C; ComponentLink1Description: Datasheet; ComponentLink1URL: https://datasheet.lcsc.com/lcsc/2206010200_UNI-ROYAL-Uniroyal-Elec-0805W8F560JT5E_C17757.pdf; ComponentLink2Description: JLCPCB Part URL; ComponentLink2URL: https://jlcpcb.com/partdetail/18445-0805W8F560JT5E/C17757
footprint RES-0805 (0805 (2012M) Resistor)
pins: 1, 2

## 0805W8F680JT5E
designator R?  Resistance: 68Ω  (hidden comment: *)
Resistor, 68Ω, ±1%, 125mW, 150V, ±200ppm/°C, -55°C to +155°C, SMD 0805; Manufacturer: Uniroyal; Manufacturer Part Number: 0805W8F680JT5E; Supplier 1: LCSC; Supplier Part Number 1: C17802; JLCPCB Part Number: C17802; Power Rating: 125mW; Category: Resistors; Package Size: 0805; JLCPCB Basic Part: Yes; Tolerance: ±1%; Voltage Rating: 150V; Temperature Coefficient: ±200ppm/°C; Temperature Rating: -55°C to +155°C; ComponentLink1Description: Datasheet; ComponentLink1URL: https://datasheet.lcsc.com/lcsc/2205311830_UNI-ROYAL-Uniroyal-Elec-0805W8F680JT5E_C17802.pdf; ComponentLink2Description: JLCPCB Part URL; ComponentLink2URL: https://jlcpcb.com/partdetail/18490-0805W8F680JT5E/C17802
footprint RES-0805 (0805 (2012M) Resistor)
pins: 1, 2

## 0805W8F1000T5E
designator R?  Resistance: 100Ω  (hidden comment: *)
Resistor, 100Ω, ±1%, 125mW, 150V, ±100ppm/°C, -55°C to +155°C, SMD 0805; Manufacturer: Uniroyal; Manufacturer Part Number: 0805W8F1000T5E; Supplier 1: LCSC; Supplier Part Number 1: C17408; JLCPCB Part Number: C17408; Power Rating: 125mW; Category: Resistors; Package Size: 0805; JLCPCB Basic Part: Yes; Tolerance: ±1%; Voltage Rating: 150V; Temperature Coefficient: ±100ppm/°C; Temperature Rating: -55°C to +155°C; ComponentLink1Description: Datasheet; ComponentLink1URL: https://datasheet.lcsc.com/lcsc/2206010216_UNI-ROYAL-Uniroyal-Elec-0805W8F1000T5E_C17408.pdf; ComponentLink2Description: JLCPCB Part URL; ComponentLink2URL: https://jlcpcb.com/partdetail/18096-0805W8F1000T5E/C17408
footprint RES-0805 (0805 (2012M) Resistor)
pins: 1, 2

## 0805W8F1001T5E
designator R?  Resistance: 1kΩ  (hidden comment: *)
Resistor, 1kΩ, ±1%, 125mW, 150V, ±100ppm/°C, -55°C to +155°C, SMD 0805; Manufacturer: Uniroyal; Manufacturer Part Number: 0805W8F1001T5E; Supplier 1: LCSC; Supplier Part Number 1: C17513; JLCPCB Part Number: C17513; Power Rating: 125mW; Category: Resistors; Package Size: 0805; JLCPCB Basic Part: Yes; Tolerance: ±1%; Voltage Rating: 150V; Temperature Coefficient: ±100ppm/°C; Temperature Rating: -55°C to +155°C; ComponentLink1Description: Datasheet; ComponentLink1URL: https://datasheet.lcsc.com/lcsc/2205311800_UNI-ROYAL-Uniroyal-Elec-0805W8F1001T5E_C17513.pdf; ComponentLink2Description: JLCPCB Part URL; ComponentLink2URL: https://jlcpcb.com/partdetail/18201-0805W8F1001T5E/C17513
footprint RES-0805 (0805 (2012M) Resistor)
pins: 1, 2

## 0805W8F1002T5E
designator R?  Resistance: 10kΩ  (hidden comment: *)
Resistor, 10kΩ, ±1%, 125mW, 150V, ±100ppm/°C, -55°C to +155°C, SMD 0805; Manufacturer: Uniroyal; Manufacturer Part Number: 0805W8F1002T5E; Supplier 1: LCSC; Supplier Part Number 1: C17414; JLCPCB Part Number: C17414; Power Rating: 125mW; Category: Resistors; Package Size: 0805; JLCPCB Basic Part: Yes; Tolerance: ±1%; Voltage Rating: 150V; Temperature Coefficient: ±100ppm/°C; Temperature Rating: -55°C to +155°C; ComponentLink1Description: Datasheet; ComponentLink1URL: https://datasheet.lcsc.com/lcsc/2206010216_UNI-ROYAL-Uniroyal-Elec-0805W8F1002T5E_C17414.pdf; ComponentLink2Description: JLCPCB Part URL; ComponentLink2URL: https://jlcpcb.com/partdetail/18102-0805W8F1002T5E/C17414
footprint RES-0805 (0805 (2012M) Resistor)
pins: 1, 2

## 0805W8F1003T5E
designator R?  Resistance: 100kΩ  (hidden comment: *)
Resistor, 100kΩ, ±1%, 125mW, 150V, ±100ppm/°C, -55°C to +155°C, SMD 0805; Manufacturer: Uniroyal; Manufacturer Part Number: 0805W8F1003T5E; Supplier 1: LCSC; Supplier Part Number 1: C149504; JLCPCB Part Number: C149504; Power Rating: 125mW; Category: Resistors; Package Size: 0805; JLCPCB Basic Part: Yes; Tolerance: ±1%; Voltage Rating: 150V; Temperature Coefficient: ±100ppm/°C; Temperature Rating: -55°C to +155°C; ComponentLink1Description: Datasheet; ComponentLink1URL: https://datasheet.lcsc.com/lcsc/2205312316_UNI-ROYAL-Uniroyal-Elec-0805W8F1003T5E_C149504.pdf; ComponentLink2Description: JLCPCB Part URL; ComponentLink2URL: https://jlcpcb.com/partdetail/160838-0805W8F1003T5E/C149504
footprint RES-0805 (0805 (2012M) Resistor)
pins: 1, 2

## 0805W8F1004T5E
designator R?  Resistance: 1MΩ  (hidden comment: *)
Resistor, 1MΩ, ±1%, 125mW, 150V, ±100ppm/°C, -55°C to +155°C, SMD 0805; Manufacturer: Uniroyal; Manufacturer Part Number: 0805W8F1004T5E; Supplier 1: LCSC; Supplier Part Number 1: C17514; JLCPCB Part Number: C17514; Power Rating: 125mW; Category: Resistors; Package Size: 0805; JLCPCB Basic Part: Yes; Tolerance: ±1%; Voltage Rating: 150V; Temperature Coefficient: ±100ppm/°C; Temperature Rating: -55°C to +155°C; ComponentLink1Description: Datasheet; ComponentLink1URL: https://datasheet.lcsc.com/lcsc/2206010200_UNI-ROYAL-Uniroyal-Elec-0805W8F1004T5E_C17514.pdf; ComponentLink2Description: JLCPCB Part URL; ComponentLink2URL: https://jlcpcb.com/partdetail/18202-0805W8F1004T5E/C17514
footprint RES-0805 (0805 (2012M) Resistor)
pins: 1, 2

## 0805W8F1005T5E
designator R?  Resistance: 10MΩ  (hidden comment: *)
Resistor, 10MΩ, ±1%, 125mW, 150V, ±100ppm/°C, -55°C to +155°C, SMD 0805; Manufacturer: Uniroyal; Manufacturer Part Number: 0805W8F1005T5E; Supplier 1: LCSC; Supplier Part Number 1: C26108; JLCPCB Part Number: C26108; Power Rating: 125mW; Category: Resistors; Package Size: 0805; JLCPCB Basic Part: Yes; Tolerance: ±1%; Voltage Rating: 150V; Temperature Coefficient: ±100ppm/°C; Temperature Rating: -55°C to +155°C; ComponentLink1Description: Datasheet; ComponentLink1URL: https://datasheet.lcsc.com/lcsc/2206010030_UNI-ROYAL-Uniroyal-Elec-0805W8F1005T5E_C26108.pdf; ComponentLink2Description: JLCPCB Part URL; ComponentLink2URL: https://jlcpcb.com/partdetail/26851-0805W8F1005T5E/C26108
footprint RES-0805 (0805 (2012M) Resistor)
pins: 1, 2

## 0805W8F1102T5E
designator R?  Resistance: 11kΩ  (hidden comment: *)
Resistor, 11kΩ, ±1%, 125mW, 150V, ±100ppm/°C, -55°C to +155°C, SMD 0805; Manufacturer: Uniroyal; Manufacturer Part Number: 0805W8F1102T5E; Supplier 1: LCSC; Supplier Part Number 1: C17429; JLCPCB Part Number: C17429; Power Rating: 125mW; Category: Resistors; Package Size: 0805; JLCPCB Basic Part: Yes; Tolerance: ±1%; Voltage Rating: 150V; Temperature Coefficient: ±100ppm/°C; Temperature Rating: -55°C to +155°C; ComponentLink1Description: Datasheet; ComponentLink1URL: https://datasheet.lcsc.com/lcsc/2206010216_UNI-ROYAL-Uniroyal-Elec-0805W8F1102T5E_C17429.pdf; ComponentLink2Description: JLCPCB Part URL; ComponentLink2URL: https://jlcpcb.com/partdetail/18117-0805W8F1102T5E/C17429
footprint RES-0805 (0805 (2012M) Resistor)
pins: 1, 2